# Altium schematic symbol library STB-HAA20.SchLib: 1 symbol
Pins are listed as number, name and electrical type; pins without a type are passive.

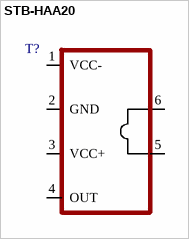
[diagram p0: symbol STB-HAA20]

## STB-HAA20
designator T?
footprint STB-HAA20
pins: 1 VCC-, 2 GND, 3 VCC+, 4 OUT, 5, 6